# Altium schematic symbol library RS232-Transceiver.SchLib: 1 symbol
Pins are listed as number, name and electrical type; pins without a type are passive.

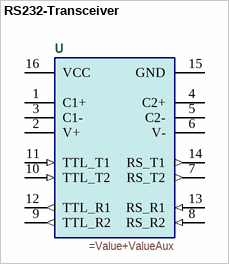
[diagram p0: symbol RS232-Transceiver]

## RS232-Transceiver
designator U
=Description
pins: 1 C1+, 2 V+ (power), 3 C1-, 4 C2+, 5 C2-, 6 V- (power), 7 RS_T2 (out), 8 RS_R2 (in), 9 TTL_R2 (out), 10 TTL_T2 (in), 11 TTL_T1 (in), 12 TTL_R1 (out), 13 RS_R1 (in), 14 RS_T1 (out), 15 GND (power), 16 VCC (power)